# Altium footprint library DuraClik-502352.PcbLib: 14 footprints
Each footprint in its own frame and in the unit in brackets; x right, y up, seen from the top. Pads: shape width x height; smd on the part's side, far side on the other; paste and mask are expansions set on the pad; w line width, h text height; cw(c..) or ccw(c..) is an arc to the next point about the centre after c.
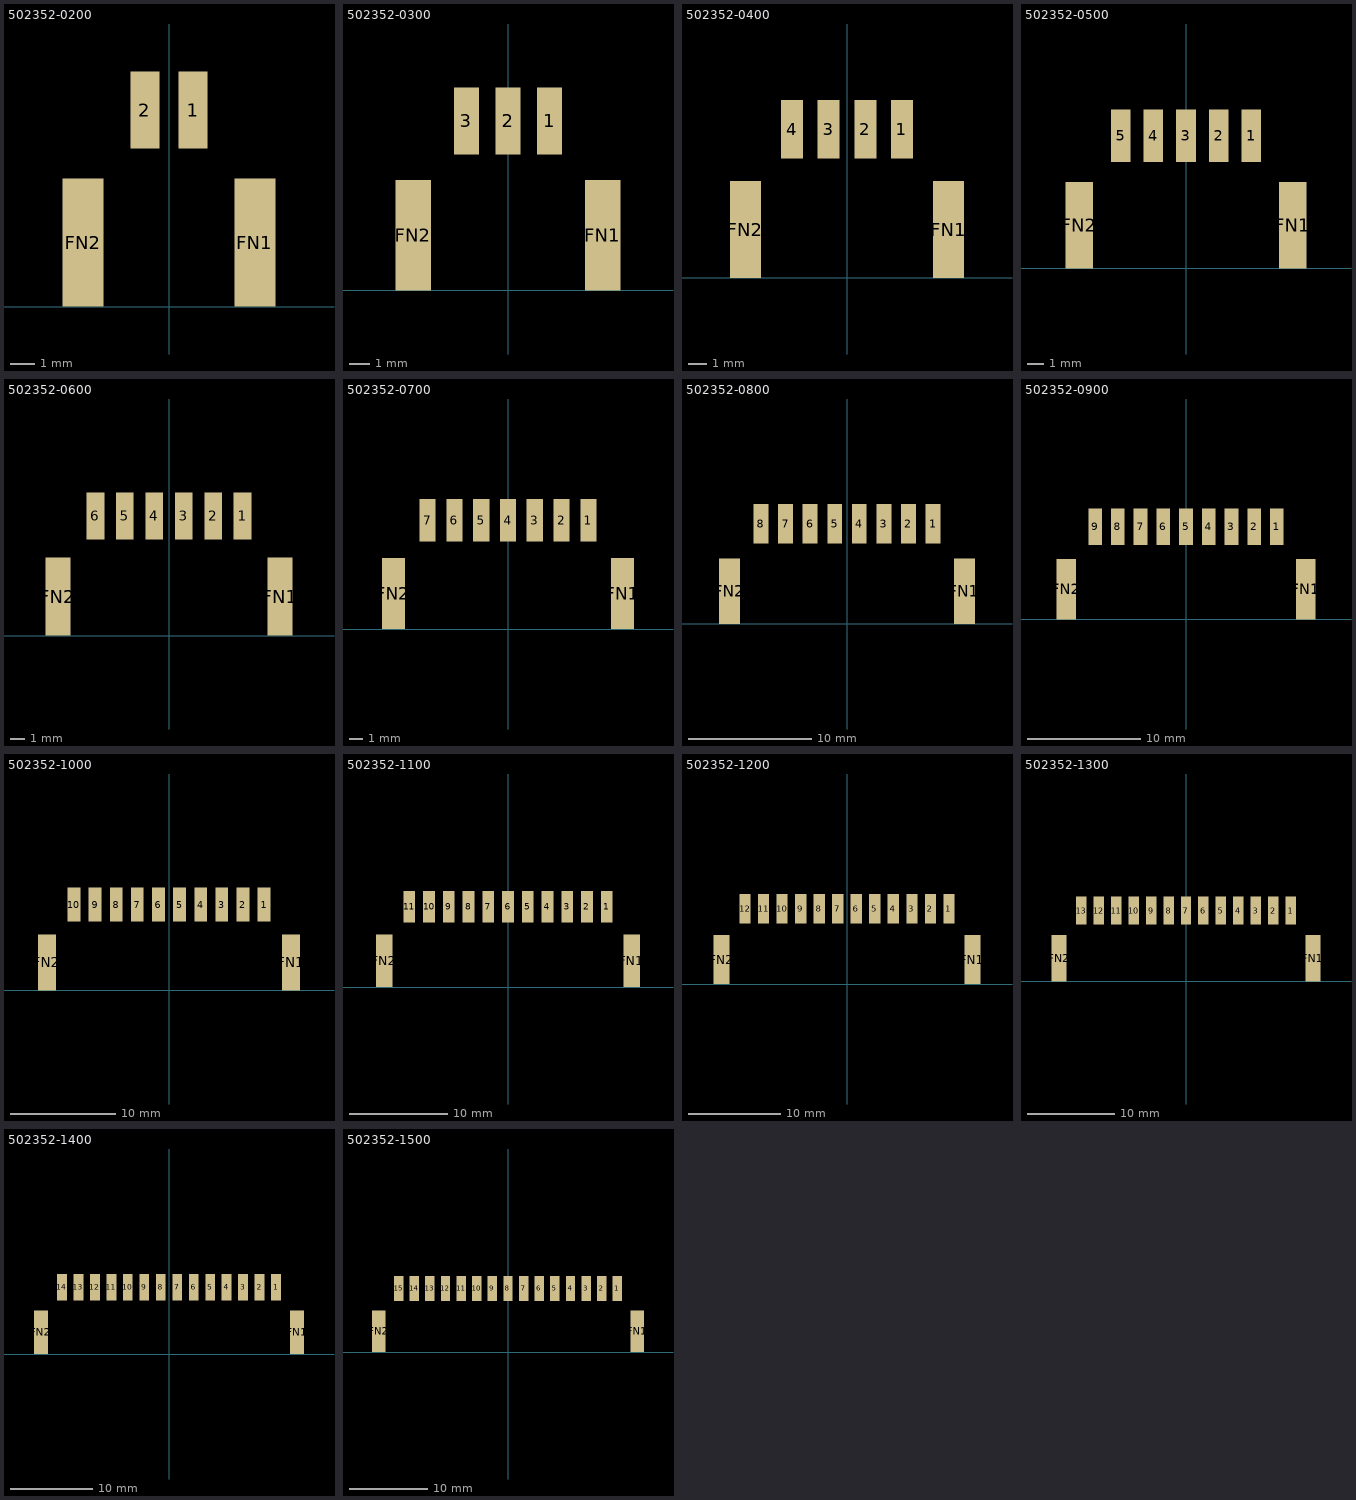
[diagram p0: the footprints below, top view; thin cyan lines are the x and y axes]

## 502352-0200 [mm]
pads (4):
  rect 1.2x3.2 smd: 1(1,8.13) 2(-1,8.13)
  rect 1.7x5.3 smd: FN1(3.55,2.65) FN2(-3.55,2.65)
3D body "5023520200.stp": height 6.36, standoff -0.04, extent -4,-0.1 4,9.3

## 502352-0300 [mm]
pads (5):
  rect 1.2x3.2 smd: 1(2,8.13) 2(0,8.13) 3(-2,8.13)
  rect 1.7x5.3 smd: FN1(4.55,2.65) FN2(-4.55,2.65)
3D body "5023520300.stp": height 6.36, standoff -0.04, extent -5,-0.1 5,9.3

## 502352-0400 [mm]
pads (6):
  rect 1.2x3.2 smd: 1(3,8.13) 2(1,8.13) 3(-1,8.13) 4(-3,8.13)
  rect 1.7x5.3 smd: FN1(5.55,2.65) FN2(-5.55,2.65)
3D body "5023520400.stp": height 6.36, standoff -0.04, extent -6,-0.1 6,9.3

## 502352-0500 [mm]
pads (7):
  rect 1.2x3.2 smd: 1(4,8.13) 2(2,8.13) 3(0,8.13) 4(-2,8.13) 5(-4,8.13)
  rect 1.7x5.3 smd: FN1(6.55,2.65) FN2(-6.55,2.65)
3D body "5023520500.stp": height 6.36, standoff -0.04, extent -7,-0.1 7,9.3

## 502352-0600 [mm]
pads (8):
  rect 1.2x3.2 smd: 1(5,8.13) 2(3,8.13) 3(1,8.13) 4(-1,8.13) 5(-3,8.13) 6(-5,8.13)
  rect 1.7x5.3 smd: FN1(7.55,2.65) FN2(-7.55,2.65)
3D body "5023520600.stp": height 6.36, standoff -0.04, extent -8,-0.1 8,9.3

## 502352-0700 [mm]
pads (9):
  rect 1.2x3.2 smd: 1(6,8.13) 2(4,8.13) 3(2,8.13) 4(0,8.13) 5(-2,8.13) 6(-4,8.13) 7(-6,8.13)
  rect 1.7x5.3 smd: FN1(8.55,2.65) FN2(-8.55,2.65)
3D body "5023520700.stp": height 6.36, standoff -0.04, extent -9,-0.1 9,9.3

## 502352-0800 [mm]
pads (10):
  rect 1.2x3.2 smd: 1(7,8.13) 2(5,8.13) 3(3,8.13) 4(1,8.13) 5(-1,8.13) 6(-3,8.13) 7(-5,8.13) 8(-7,8.13)
  rect 1.7x5.3 smd: FN1(9.55,2.65) FN2(-9.55,2.65)
3D body "5023520800.stp": height 6.36, standoff -0.04, extent -10,-0.1 10,9.3

## 502352-0900 [mm]
pads (11):
  rect 1.2x3.2 smd: 1(8,8.13) 2(6,8.13) 3(4,8.13) 4(2,8.13) 5(0,8.13) 6(-2,8.13) 7(-4,8.13) 8(-6,8.13) 9(-8,8.13)
  rect 1.7x5.3 smd: FN1(10.55,2.65) FN2(-10.55,2.65)
3D body "5023520900.stp": height 6.36, standoff -0.04, extent -11,-0.1 11,9.3

## 502352-1000 [mm]
pads (12):
  rect 1.2x3.2 smd: 1(9,8.13) 2(7,8.13) 3(5,8.13) 4(3,8.13) 5(1,8.13) 6(-1,8.13) 7(-3,8.13) 8(-5,8.13) 9(-7,8.13) 10(-9,8.13)
  rect 1.7x5.3 smd: FN1(11.55,2.65) FN2(-11.55,2.65)
3D body "5023521000.stp": height 6.36, standoff -0.04, extent -12,-0.1 12,9.3

## 502352-1100 [mm]
pads (13):
  rect 1.2x3.2 smd: 1(10,8.13) 2(8,8.13) 3(6,8.13) 4(4,8.13) 5(2,8.13) 6(0,8.13) 7(-2,8.13) 8(-4,8.13) 9(-6,8.13) 10(-8,8.13) 11(-10,8.13)
  rect 1.7x5.3 smd: FN1(12.55,2.65) FN2(-12.55,2.65)
3D body "5023521100.stp": height 6.36, standoff -0.04, extent -13,-0.1 13,9.3

## 502352-1200 [mm]
pads (14):
  rect 1.2x3.2 smd: 1(11,8.13) 2(9,8.13) 3(7,8.13) 4(5,8.13) 5(3,8.13) 6(1,8.13) 7(-1,8.13) 8(-3,8.13) 9(-5,8.13) 10(-7,8.13) 11(-9,8.13) 12(-11,8.13)
  rect 1.7x5.3 smd: FN1(13.55,2.65) FN2(-13.55,2.65)
3D body "5023521200.stp": height 6.36, standoff -0.04, extent -14,-0.1 14,9.3

## 502352-1300 [mm]
pads (15):
  rect 1.2x3.2 smd: 1(12,8.13) 2(10,8.13) 3(8,8.13) 4(6,8.13) 5(4,8.13) 6(2,8.13) 7(0,8.13) 8(-2,8.13) 9(-4,8.13) 10(-6,8.13) 11(-8,8.13) 12(-10,8.13) 13(-12,8.13)
  rect 1.7x5.3 smd: FN1(14.55,2.65) FN2(-14.55,2.65)
3D body "5023521300.stp": height 6.36, standoff -0.04, extent -15,-0.1 15,9.3

## 502352-1400 [mm]
pads (16):
  rect 1.2x3.2 smd: 1(13,8.13) 2(11,8.13) 3(9,8.13) 4(7,8.13) 5(5,8.13) 6(3,8.13) 7(1,8.13) 8(-1,8.13) 9(-3,8.13) 10(-5,8.13) 11(-7,8.13) 12(-9,8.13) 13(-11,8.13) 14(-13,8.13)
  rect 1.7x5.3 smd: FN1(15.55,2.65) FN2(-15.55,2.65)
3D body "5023521400.stp": height 6.36, standoff -0.04, extent -16,-0.1 16,9.3

## 502352-1500 [mm]
pads (17):
  rect 1.2x3.2 smd: 1(14,8.13) 2(12,8.13) 3(10,8.13) 4(8,8.13) 5(6,8.13) 6(4,8.13) 7(2,8.13) 8(0,8.13) 9(-2,8.13) 10(-4,8.13) 11(-6,8.13) 12(-8,8.13) 13(-10,8.13) 14(-12,8.13) 15(-14,8.13)
  rect 1.7x5.3 smd: FN1(16.55,2.65) FN2(-16.55,2.65)
3D body "5023521500.stp": height 6.36, standoff -0.04, extent -17,-0.1 17,9.3